# Altium schematic symbol library AP22653W6-7.SCHLIB: 1 symbol
Pins are listed as number, name and electrical type; pins without a type are passive.

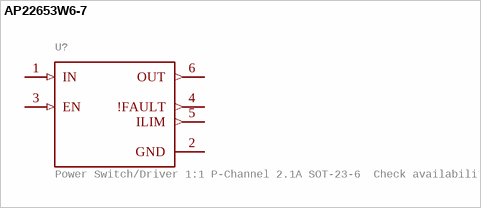
[diagram p0: symbol AP22653W6-7]

## AP22653W6-7
designator U?, comment Power Switch/Driver 1:1 P-Channel 2.1A SOT-23-6  Check availability
GateName_1: G$1; SymbolName_1: AP22653W6-7; MF: Diodes Incorporated; LibraryName: AP22653W6-7; DeviceSetName: AP22653W6-7; Package: SOT95P280X145-6N; Description: Power Switch/Driver 1:1 P-Channel 2.1A SOT-23-6; Package: SOT-23-6 Diodes Incorporated; Price: None; Check_prices: https://www.snapeda.com/parts/AP22653W6-7/Diodes+Inc./view-part/?ref=eda; SnapEDA_Link: https://www.snapeda.com/parts/AP22653W6-7/Diodes+Inc./view-part/?ref=snap; MP: AP22653W6-7; Availability: In Stock; Purchase-URL: https://www.snapeda.com/api/url_track_click_mouser/?unipart_id=4792807&manufacturer=Diodes Incorporated&part_name=AP22653W6-7&search_term=ap22653w6-7
footprint SOT95P280X145-6N
pins: 1 IN (in), 2 GND (power), 3 EN (in), 4 !FAULT (out), 5 ILIM (out), 6 OUT (out)